# Altium footprint library My_Library.PcbLib: 22 footprints (part 1 of 2)
Each footprint in its own frame and in the unit in brackets; x right, y up, seen from the top. Pads: shape width x height; smd on the part's side, far side on the other; paste and mask are expansions set on the pad; w line width, h text height; cw(c..) or ccw(c..) is an arc to the next point about the centre after c.
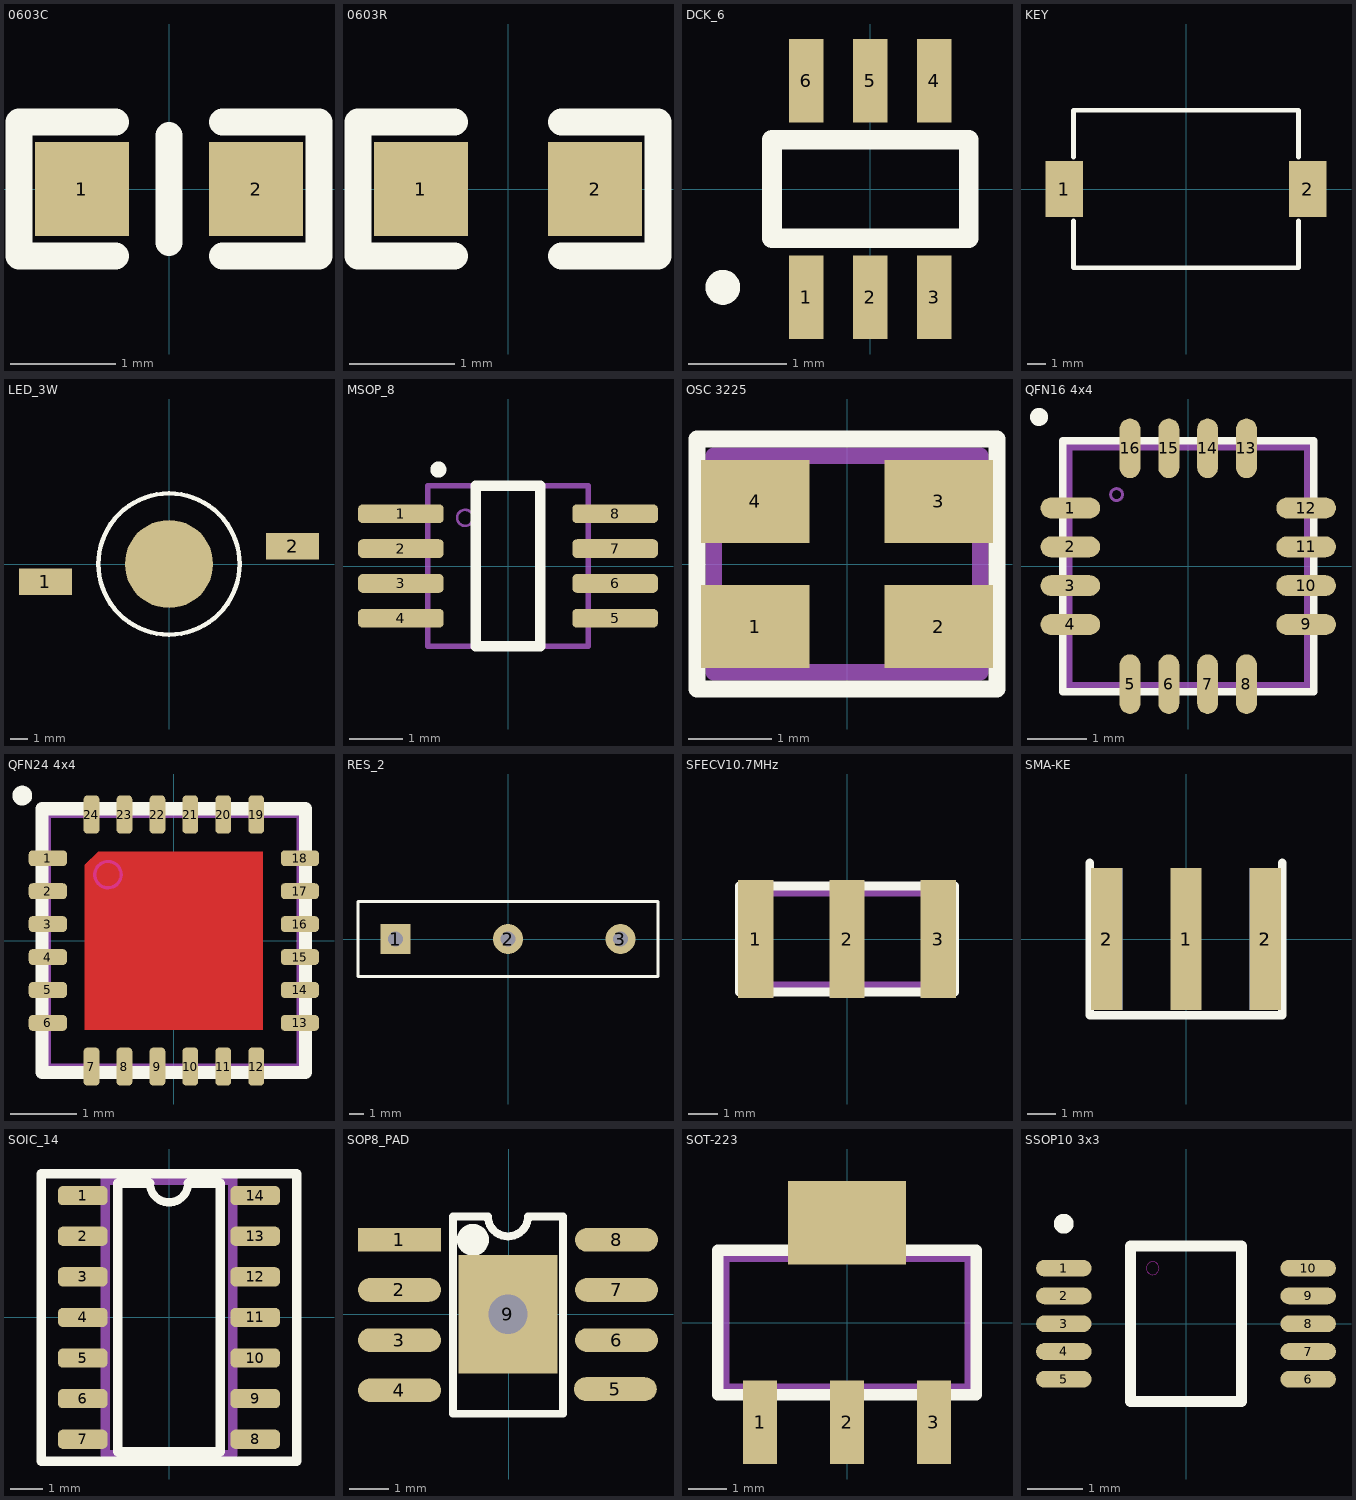
[diagram p0: the footprints below, top view; thin cyan lines are the x and y axes]

## 0603C [mil]
height 39.37
pads (2):
  rect 35x35 smd: 1(-32.5,0) 2(32.5,0)
Top Overlay:
  lines w10: -20,-25 -56,-25 -56,25 -20,25 ; 0,-20 0,20 ; 20,-25 56,-25 56,25 20,25
Mechanical 15:
  lines w2: 29.21,-1.42 39.21,-1.42 ; 34.21,-6.42 34.21,-1.42 34.21,3.58
3D body "Capacitor 0603 SMD.step": height 35.04, standoff -0.39, extent -50.66,-20.36 51.7,19.01

## 0603R [mil]
height 59.06
pads (2):
  rect 35x35 smd: 1(-32.5,0) 2(32.5,0)
Top Overlay:
  lines w10: -20,-25 -56,-25 -56,25 -20,25 ; 20,-25 56,-25 56,25 20,25
Mechanical 15:
  lines w2: 29.21,-1.42 39.21,-1.42 ; 34.21,-6.42 34.21,-1.42 34.21,3.58
3D body "User Library-RESC1608X___.step": height 11.81, standoff 0, extent -29.52,-15.74 33.47,15.75

## DCK_6 [mm]
pads (6):
  rect 0.35x0.85 smd: 1(-0.65,-1.1) 2(0,-1.1) 3(0.65,-1.1) 4(0.65,1.1) 5(0,1.1) 6(-0.65,1.1)
Top Overlay:
  circle w0.254: c-1.5,-1 r0.05
  lines w0.2: -1,-0.5 1,-0.5 1,0.5 -1,0.5 -1,-0.5

## KEY [mm]
pads (2):
  rect 2x3 smd: 1(-6.5,0) 2(6.5,0)
Top Overlay:
  lines w0.254: -6,-1.7 -6,-4.2 6,-4.2 6,-1.7 ; -6,1.7 -6,4.2 6,4.2 6,1.7

## LED_3W [mm]
pads (3):
  rect 3x1.5 smd: 1(-7,-1) 2(7,1)
  round 5 smd: ""(0,0)
Top Overlay:
  circle w0.254: c0,0 r4

## MSOP_8 [mm] "MSOP, 8-Leads, Body 3mmx3mm, Pitch 0,65mm"
height 1.1
pads (8):
  rrect50% 1.6x0.35 smd mask+0.128: 1(-2,0.975) 2(-2,0.325) 3(-2,-0.325) 4(-2,-0.975) 5(2,-0.975) 6(2,-0.325) 7(2,0.325) 8(2,0.975)
Top Overlay:
  circle w0.2: c-1.3,1.8 r0.05
  lines w0.2: -0.6,-1.5 -0.6,1.5 0.6,1.5 0.6,-1.5 -0.6,-1.5
Mechanical 1:
  circle w0.05: c-0.8,0.9 r0.15
  lines w0.1: -1.5,-1.5 -1.5,1.5 1.5,1.5 1.5,-1.5 -1.5,-1.5
3D body "User Library-MSOP8.step": height 1.1, standoff 0, extent -2.469,-1.55 2.469,1.55

## OSC 3225 [mm]
height 1
pads (4):
  rect 1.3x1 smd: 1(-1.1,-0.75) 2(1.1,-0.75) 3(1.1,0.75) 4(-1.1,0.75)
Top Overlay:
  lines w0.2: -1.8,-1.5 -1.8,1.5 1.8,1.5 1.8,-1.5 -1.8,-1.5
Mechanical 1:
  lines w0.2: -1.6,-1.3 -1.6,1.3 1.6,1.3 1.6,-1.3 -1.6,-1.3
3D body: height 0.25, standoff 0, extent 3.8,0 3.8,0
3D body "User Library-tsx-3225-1.step": height 0.6, standoff 0, extent -1.6,-1.3 1.6,1.2

## QFN16 4x4 [mm] "QFN"
height 0.8
pads (16):
  oval 1x0.35 smd: 1(-1.975,0.975) 2(-1.975,0.325) 3(-1.975,-0.325) 4(-1.975,-0.975) 9(1.975,-0.975) 10(1.975,-0.325) 11(1.975,0.325) 12(1.975,0.975)
  oval 0.35x1 smd: 5(-0.975,-1.975) 6(-0.325,-1.975) 7(0.325,-1.975) 8(0.975,-1.975) 13(0.975,1.975) 14(0.325,1.975) 15(-0.325,1.975) 16(-0.975,1.975)
Top Overlay:
  circle w0.2: c-2.5,2.5 r0.05
  lines w0.127: -2.1,-2.1 -2.1,2.1 2.1,2.1 2.1,-2.1 -2.1,-2.1
Mechanical 1:
  circle w0.05: c-1.2,1.2 r0.1
  lines w0.127: -2,-2 -2,2 2,2 2,-2 -2,-2
3D body "ALSRobot-QFN16 4x4.step": height 0.92, standoff 0, extent -2,-2 2,2

## QFN24 4x4 [mm] "VQFN, 24-Leads, Body 4mmx4mm, Pitch 0,5mm"
height 1
pads (24):
  rrect50% 0.58x0.24 smd mask+0.07: 1(-1.913,1.25) 2(-1.913,0.75) 3(-1.913,0.25) 4(-1.913,-0.25) 5(-1.913,-0.75) 6(-1.913,-1.25) 13(1.913,-1.25) 14(1.913,-0.75) 15(1.913,-0.25) 16(1.913,0.25) 17(1.913,0.75) 18(1.913,1.25)
  rrect50% 0.24x0.58 smd mask+0.07: 7(-1.25,-1.913) 8(-0.75,-1.913) 9(-0.25,-1.913) 10(0.25,-1.913) 11(0.75,-1.913) 12(1.25,-1.913) 19(1.25,1.913) 20(0.75,1.913) 21(0.25,1.913) 22(-0.25,1.913) 23(-0.75,1.913) 24(-1.25,1.913)
Top Layer:
  region: 1.35,1.35 1.35,-1.35 -1.35,-1.35 -1.35,1.15 -1.15,1.35
Top Overlay:
  circle w0.2: c-2.3,2.2 r0.05
  lines w0.2: -2,-2 2,-2 2,2 -2,2 -2,-2
Keep-Out Layer:
  circle w0.05: c-1,1 r0.2
Mechanical 1:
  lines w0.1: -1.913,-1.913 1.913,-1.913 1.913,1.913 -1.913,1.913 -1.913,-1.913
3D body "User Library-QFN24.step": height 0.9, standoff 0, extent -2.005,-2.005 2.005,2.005

## RES_2 [mil]
pads (3):
  rect 80x80 hole 40: 1(-300,0)
  round 80 hole 40: 2(0,0) 3(300,0)
Top Overlay:
  lines w7.87: -400,-100 400,-100 400,100 -300,100 -400,100 -400,-100

## SFECV10.7MHz [mm]
height 1
pads (3):
  rect 1.2x4 smd: 1(-3.1,0) 2(0,0) 3(3.1,0)
Top Overlay:
  lines w0.3: -3.65,-1.8 3.65,-1.8 3.65,1.8 -3.65,1.8 -3.65,-1.8
Mechanical 1:
  lines w0.3: -3.45,-1.6 3.45,-1.6 3.45,1.6 -3.45,1.6 -3.45,-1.6
3D body: height 1, standoff 0, extent -3.45,-1.6 3.45,1.6

## SMA-KE [mm] "SMA直立式"
height 1
pads (5):
  rect 1.1x5 smd: 1(0,0) 2(-2.8,0) 2(2.8,0)
  rect 1.1x5 smd far side: 2(-2.8,0) 2(2.8,0)
Top Overlay:
  lines w0.3: -3.4,2.7 -3.4,-2.7 3.4,-2.7 3.4,2.7
3D body "User Library-sma.step": height 3.16, standoff -3.16, extent -3.155,-1.85 3.155,11.6
3D body: height 0.25, standoff 0, extent -3.4,5.4 -3.4,5.4

## SOIC_14 [mm]
height 1.75
pads (14):
  rrect50% 1.55x0.6 smd: 1(-2.7,3.81) 2(-2.7,2.54) 3(-2.7,1.27) 4(-2.7,0) 5(-2.7,-1.27) 6(-2.7,-2.54) 7(-2.7,-3.81) 8(2.7,-3.81) 9(2.7,-2.54) 10(2.7,-1.27) 11(2.7,0) 12(2.7,1.27) 13(2.7,2.54) 14(2.7,3.81)
Top Overlay:
  lines w0.254: -0.6,4.2 ccw(c0,4.2) 0.6,4.2
  lines w0.3: -0.6,4.2 -1.6,4.2 -1.6,-4.2 1.6,-4.2 1.6,4.2 0.6,4.2 ; -4,-4.5 -4,4.5 4,4.5 4,-4.5 -4,-4.5
Mechanical 1:
  lines w0.3: -2,-4.3 -2,4.3 2,4.3 2,-4.3 -2,-4.3
3D body "User Library-SOIC14-150-1.step": height 1.75, standoff 0, extent -2.9,-4.28 2.9,4.25

## SOP8_PAD [mm]
pads (9):
  rect 2.1x0.6 smd: 1(-2.769,1.88)
  oval 2.1x0.6 smd: 2(-2.769,0.61) 3(-2.769,-0.66) 4(-2.769,-1.93) 5(2.7,-1.9) 6(2.731,-0.66) 7(2.731,0.61) 8(2.731,1.88)
  rect 2.5x3 smd: 9(-0.019,0)
via -0.019,0 diameter 1.5 hole 1
Top Overlay:
  circle w0.5: c-0.908,1.88 r0.155
  lines w0.2: -1.416,2.475 -1.416,-2.525 1.378,-2.525 1.378,2.475
  lines w0.203: -1.416,2.475 -0.527,2.475 ccw(c-0.019,2.475) -0.019,1.967 ccw(c-0.019,2.475) 0.489,2.475 1.378,2.475
3D body "SOP8.STEP": height 1.9, standoff 0, extent -2.977,-2.525 3.028,2.475

## SOT-223 [mm]
height 1.8
pads (4):
  rect 0.9x2.2 smd: 1(-2.29,-2.625) 2(0,-2.625) 3(2.29,-2.625)
  rect 3.1x2.2 smd: ""(0,2.625)
Top Overlay:
  lines w0.3: -3.4,-1.9 3.4,-1.9 3.4,1.9 -3.4,1.9 -3.4,-1.9
Mechanical 1:
  lines w0.3: -3.25,-1.75 3.25,-1.75 3.25,1.75 -3.25,1.75 -3.25,-1.75
3D body "CircuitWorks-SOT-223.step": height 1.6, standoff -0.08, extent -3.25,-3.48 3.25,3.48

## SSOP10 3x3 [mm] "VSSOP, 10-Leads, Body 3mmx3mm, Pitch 0,5mm"
height 1.1
pads (10):
  oval 1x0.3 smd: 1(-2.2,1) 2(-2.2,0.5) 3(-2.2,0) 4(-2.2,-0.5) 5(-2.2,-1) 6(2.2,-1) 7(2.2,-0.5) 8(2.2,0) 9(2.2,0.5) 10(2.2,1)
Top Overlay:
  circle w0.254: c-2.2,1.8 r0.05
  lines w0.2: -1,-1.4 1,-1.4 1,1.4 -1,1.4 -1,-1.4
Keep-Out Layer:
  circle w0.02: c-0.6,1 r0.115
3D body "User Library-DGS0010A.STEP": height 1.1, standoff 0, extent -2.463,-1.5 2.462,1.5